# Altium integrated library Actel Axcelerator.IntLib: 120 symbols (part 28 of 31)
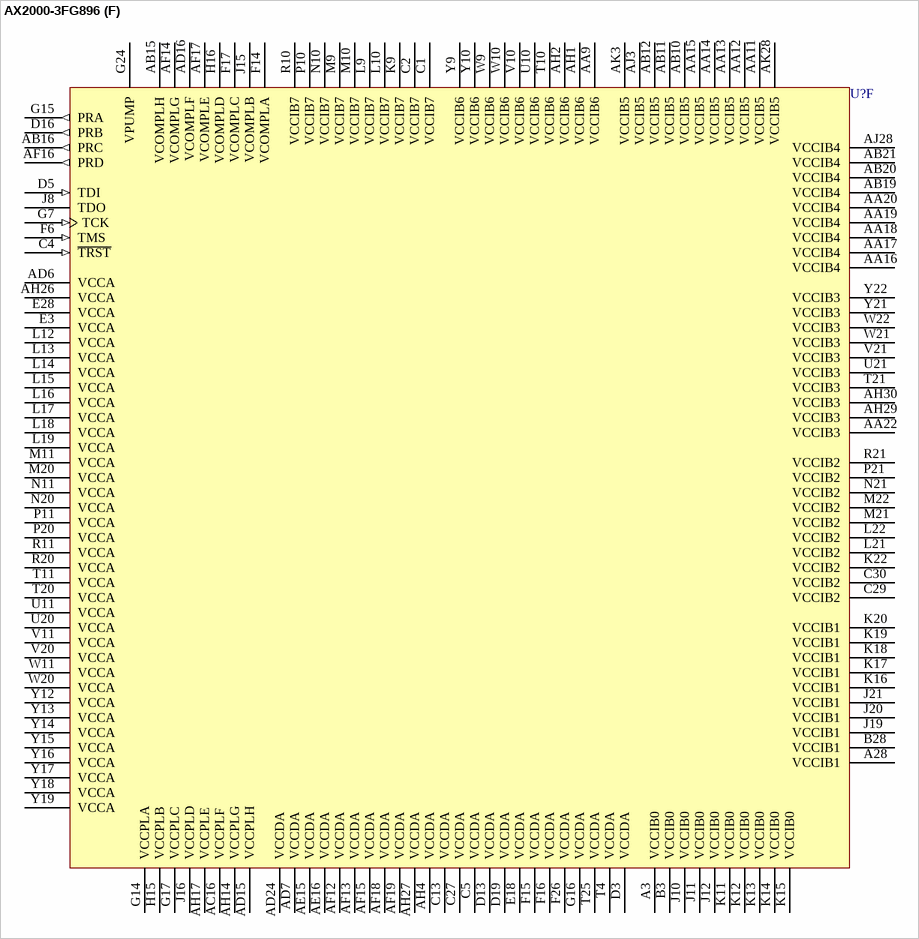
[diagram p381: symbol AX2000-3FG896]

## AX2000-3FG896
designator U?
Axcelerator AX2000 FPGA, 586 User I/Os, 896-Pin FBGA, Speed Grade 3, Commercial Grade; Published: 21-May-2003; LatestRevisionDate: 13-Apr-2006; LatestRevisionNote: IPC-7351 Footprint Added.; DatasheetVersion: Jan-2005; PackageVersion: v9.2, Apr-2006; PackageReference: FG896; Publisher: Altium Limited; PackageDescription: 896-Ball Fine Pitch Plastic Ball Grid Array (FG896); Code_JEDEC: MS-034-AAN-1; ComponentLink1Description: Manufacturer Link; ComponentLink1URL: http://www.actel.com/products/axcelerator/index.html
footprint FG896 (BGA, 896-Leads, Body 31x31mm, Pitch 1mm)
3D model AX2000-FG896 (896-Ball Fine Pitch Plastic Ball Grid Array (FG896))
part A pins: A4 IO00PB0F0 (io), A5 IO04NB0F0 (io), A6 IO10NB0F0 (io), A7 IO16NB0F1 (io), A9 IO23PB0F2 (io), A10 IO23NB0F2 (io), A11 IO30PB0F2 (io), A12 IO30NB0F2 (io), A14 IO38PB0F3 (io), A15 IO40PB0F3 (io), A16 IO45NB1F4 (io), A17 IO48NB1F4 (io), A19 IO56PB1F5 (io), A20 IO59PB1F5 (io), A21 IO62PB1F5 (io), A22 IO62NB1F5 (io), A24 IO69PB1F6 (io), A25 IO69NB1F6 (io), A26 IO78PB1F7 (io), A27 IO82PB1F7 (io), B4 IO00NB0F0 (io), B5 IO04PB0F0 (io), B6 IO10PB0F0 (io), B7 IO16PB0F1 (io), B8 IO20PB0F1 (io), B10 IO26PB0F2 (io), B11 IO26NB0F2 (io), B12 IO34PB0F3 (io), B13 IO34NB0F3 (io), B14 IO38NB0F3 (io), B15 IO40NB0F3 (io), B16 IO45PB1F4 (io), B17 IO48PB1F4 (io), B18 IO52NB1F4 (io), B19 IO56NB1F5 (io), B20 IO59NB1F5 (io), B21 IO66PB1F6 (io), B23 IO66NB1F6 (io), B24 IO76PB1F7 (io), B25 IO76NB1F7 (io), B26 IO78NB1F7 (io), B27 IO82NB1F7 (io), C6 IO08PB0F0 (io), C7 IO08NB0F0 (io), C8 IO18PB0F1 (io), C9 IO18NB0F1 (io), C11 IO28PB0F2 (io), C12 IO28NB0F2 (io), C14 IO41NB0F3/HCLKAN (io), C17 IO44NB1F4/HCLKDN (io), C18 IO53PB1F4 (io), C19 IO58PB1F5 (io), C20 IO58NB1F5 (io), C22 IO68PB1F6 (io), C23 IO73PB1F6 (io), C24 IO73NB1F6 (io), C25 IO80PB1F7 (io), C26 IO84PB1F7 (io), D6 IO02NB0F0 (io), D7 IO06NB0F0 (io), D8 IO07NB0F0 (io), D9 IO17PB0F1 (io), D10 IO17NB0F1 (io), D11 IO19NB0F1 (io), D12 IO27NB0F2 (io), D14 IO41PB0F3/HCLKAP (io), D15 IO42PB0F3/HCLKBP (io), D17 IO44PB1F4/HCLKDP (io), D18 IO53NB1F4 (io), D20 IO63PB1F5 (io), D21 IO63NB1F5 (io), D22 IO68NB1F6 (io), D23 IO74PB1F6 (io), D24 IO74NB1F6 (io), D25 IO80NB1F7 (io), D26 IO84NB1F7 (io), E6 IO02PB0F0 (io), E7 IO06PB0F0 (io), E8 IO07PB0F0 (io), E9 IO12NB0F1 (io), E10 IO13NB0F1 (io), E11 IO19PB0F1 (io), E12 IO27PB0F2 (io), E13 IO37PB0F3 (io), E14 IO37NB0F3 (io), E15 IO42NB0F3/HCLKBN (io), E16 IO43PB1F4/HCLKCP (io), E17 IO43NB1F4/HCLKCN (io), E19 IO57PB1F5 (io), E20 IO57NB1F5 (io), E21 IO71PB1F6 (io), E22 IO70PB1F6 (io), E23 IO79PB1F7 (io), E24 IO83PB1F7 (io), E25 IO85PB1F7 (io), F7 IO01PB0F0 (io), F8 IO01NB0F0 (io), F9 IO12PB0F1 (io), F10 IO13PB0F1 (io), F11 IO15NB0F1 (io), F12 IO25NB0F2 (io), F13 IO31NB0F2 (io), F18 IO51NB1F4 (io), F19 IO61PB1F5 (io), F20 IO61NB1F5 (io), F21 IO71NB1F6 (io), F22 IO70NB1F6 (io), F23 IO79NB1F7 (io), F24 IO83NB1F7 (io), F25 IO85NB1F7 (io), G8 IO05PB0F0 (io), G9 IO09NB0F0 (io), G10 IO11PB0F0 (io), G11 IO15PB0F1 (io), G12 IO25PB0F2 (io), G13 IO31PB0F2 (io), G18 IO51PB1F4 (io), G19 IO55PB1F5 (io), G20 IO65NB1F6 (io), G21 IO67PB1F6 (io), G22 IO81PB1F7 (io), G23 IO81NB1F7 (io), H8 IO05NB0F0 (io), H9 IO09PB0F0 (io), H10 IO11NB0F0 (io), H11 IO21PB0F1 (io), H12 IO21NB0F1 (io), H13 IO33NB0F2 (io), H14 IO39NB0F3 (io), H17 IO47NB1F4 (io), H18 IO49NB1F4 (io), H19 IO55NB1F5 (io), H20 IO65PB1F6 (io), H21 IO67NB1F6 (io), H22 IO75PB1F6 (io), H23 IO75NB1F6 (io), J13 IO33PB0F2 (io), J14 IO39PB0F3 (io), J17 IO47PB1F4 (io), J18 IO49PB1F4 (io)
part B pins: AA23 IO170PB3F15 (io), AA24 IO157NB3F14 (io), AA25 IO159PB3F14 (io), AA26 IO152NB3F14 (io), AA27 IO155PB3F14 (io), AA29 IO150NB3F14 (io), AA30 IO154PB3F14 (io), AB23 IO170NB3F15 (io), AB24 IO165PB3F15 (io), AB25 IO159NB3F14 (io), AB26 IO163PB3F15 (io), AB27 IO155NB3F14 (io), AB28 IO156PB3F14 (io), AB30 IO154NB3F14 (io), AC24 IO165NB3F15 (io), AC25 IO168PB3F15 (io), AC26 IO163NB3F15 (io), AC27 IO162PB3F15 (io), AC28 IO156NB3F14 (io), AC29 IO151NB3F14 (io), AD25 IO168NB3F15 (io), AD26 IO167PB3F15 (io), AD27 IO162NB3F15 (io), AD28 IO164PB3F15 (io), AD29 IO161PB3F15 (io), AD30 IO160PB3F14 (io), AE26 IO167NB3F15 (io), AE27 IO169PB3F15 (io), AE28 IO164NB3F15 (io), AE29 IO161NB3F15 (io), AE30 IO160NB3F14 (io), AF27 IO169NB3F15 (io), AF28 IO166PB3F15 (io), AF29 IO158NB3F14 (io), AF30 IO158PB3F14 (io), AG28 IO166NB3F15 (io), D29 IO89PB2F8 (io), D30 IO102PB2F9 (io), E27 IO90PB2F8 (io), E29 IO89NB2F8 (io), E30 IO102NB2F9 (io), F27 IO90NB2F8 (io), F28 IO92PB2F8 (io), F29 IO104NB2F9 (io), F30 IO96PB2F9 (io), G25 IO86PB2F8 (io), G26 IO86NB2F8 (io), G27 IO94PB2F8 (io), G28 IO92NB2F8 (io), G29 IO95PB2F8 (io), G30 IO96NB2F9 (io), H24 IO88PB2F8 (io), H25 IO91PB2F8 (io), H26 IO91NB2F8 (io), H27 IO94NB2F8 (io), H28 IO98PB2F9 (io), H29 IO95NB2F8 (io), J23 IO87PB2F8 (io), J24 IO88NB2F8 (io), J25 IO93PB2F8 (io), J26 IO93NB2F8 (io), J27 IO100PB2F9 (io), J28 IO98NB2F9 (io), J30 IO101PB2F9 (io), K23 IO87NB2F8 (io), K24 IO97PB2F9 (io), K25 IO97NB2F9 (io), K26 IO103PB2F9 (io), K27 IO100NB2F9 (io), K29 IO106PB2F9 (io), K30 IO106NB2F9 (io), L23 IO99NB2F9 (io), L24 IO99PB2F9 (io), L25 IO105PB2F9 (io), L26 IO103NB2F9 (io), L27 IO109PB2F10 (io), L28 IO110PB2F10 (io), L29 IO112PB2F10 (io), L30 IO114PB2F10 (io), M23 IO107NB2F10 (io), M24 IO107PB2F10 (io), M25 IO105NB2F9 (io), M26 IO113PB2F10 (io), M27 IO109NB2F10 (io), M28 IO110NB2F10 (io), M29 IO112NB2F10 (io), M30 IO114NB2F10 (io), N22 IO111NB2F10 (io), N23 IO111PB2F10 (io), N24 IO117PB2F10 (io), N25 IO117NB2F10 (io), N26 IO113NB2F10 (io), N27 IO115PB2F10 (io), N28 IO115NB2F10 (io), N29 IO118NB2F11 (io), P22 IO119NB2F11 (io), P23 IO119PB2F11 (io), P24 IO121PB2F11 (io), P25 IO121NB2F11 (io), P26 IO123PB2F11 (io), P27 IO122PB2F11 (io), P28 IO122NB2F11 (io), P29 IO124NB2F11 (io), P30 IO124PB2F11 (io), R22 IO125NB2F11 (io), R23 IO125PB2F11 (io), R24 IO127NB2F11 (io), R25 IO127PB2F11 (io), R26 IO123NB2F11 (io), R27 IO129PB3F12 (io), R29 IO128NB2F11 (io), R30 IO128PB2F11 (io), T22 IO131NB3F12 (io), T23 IO131PB3F12 (io), T24 IO133PB3F12 (io), T26 IO132PB3F12 (io), T27 IO129NB3F12 (io), T29 IO130NB3F12 (io), T30 IO130PB3F12 (io), U22 IO135PB3F12 (io), U23 IO135NB3F12 (io), U24 IO133NB3F12 (io), U25 IO139PB3F13 (io), U26 IO132NB3F12 (io), U27 IO138PB3F12 (io), U28 IO137PB3F12 (io), U29 IO136NB3F12 (io), U30 IO136PB3F12 (io), V22 IO141PB3F13 (io), V23 IO141NB3F13 (io), V24 IO145PB3F13 (io), V25 IO139NB3F13 (io), V26 IO143PB3F13 (io), V27 IO138NB3F12 (io), V28 IO137NB3F12 (io), V29 IO142PB3F13 (io), W23 IO153PB3F14 (io), W24 IO145NB3F13 (io), W25 IO149PB3F13 (io), W26 IO143NB3F13 (io), W27 IO146NB3F13 (io), W28 IO146PB3F13 (io), W29 IO142NB3F13 (io), W30 IO148PB3F13 (io), Y23 IO153NB3F14 (io), Y24 IO157PB3F14 (io), Y25 IO149NB3F13 (io), Y26 IO152PB3F14 (io), Y27 IO147PB3F13 (io), Y28 IO147NB3F13 (io), Y29 IO150PB3F14 (io), Y30 IO148NB3F13 (io)
part C pins: AB13 IO222NB5F20 (io), AB14 IO216NB5F20 (io), AB17 IO210PB4F19 (io), AB18 IO202PB4F18 (io), AC8 IO250NB5F23 (io), AC9 IO250PB5F23 (io), AC10 IO240NB5F22 (io), AC11 IO234NB5F21 (io), AC12 IO230NB5F21 (io), AC13 IO226NB5F21 (io), AC14 IO222PB5F20 (io), AC15 IO216PB5F20 (io), AC17 IO210NB4F19 (io), AC18 IO202NB4F18 (io), AC19 IO198NB4F18 (io), AC20 IO198PB4F18 (io), AC21 IO188PB4F17 (io), AC22 IO182PB4F17 (io), AC23 IO178PB4F16 (io), AD8 IO246NB5F23 (io), AD9 IO246PB5F23 (io), AD10 IO240PB5F22 (io), AD11 IO234PB5F21 (io), AD12 IO230PB5F21 (io), AD13 IO226PB5F21 (io), AD14 IO218PB5F20 (io), AD17 IO208PB4F19 (io), AD18 IO206PB4F19 (io), AD19 IO196NB4F18 (io), AD20 IO196PB4F18 (io), AD21 IO188NB4F17 (io), AD22 IO182NB4F17 (io), AD23 IO178NB4F16 (io), AE7 IO254NB5F23 (io), AE8 IO254PB5F23 (io), AE9 IO242NB5F22 (io), AE10 IO242PB5F22 (io), AE11 IO232NB5F21 (io), AE12 IO227NB5F21 (io), AE13 IO227PB5F21 (io), AE14 IO218NB5F20 (io), AE17 IO208NB4F19 (io), AE18 IO206NB4F19 (io), AE19 IO192NB4F17 (io), AE20 IO192PB4F17 (io), AE21 IO184NB4F17 (io), AE22 IO184PB4F17 (io), AE23 IO176NB4F16 (io), AE24 IO176PB4F16 (io), AF6 IO252NB5F23 (io), AF7 IO252PB5F23 (io), AF8 IO245NB5F23 (io), AF9 IO238NB5F22 (io), AF10 IO238PB5F22 (io), AF11 IO232PB5F21 (io), AF20 IO190NB4F17 (io), AF21 IO190PB4F17 (io), AF22 IO183NB4F17 (io), AF23 IO183PB4F17 (io), AF24 IO172NB4F16 (io), AF25 IO172PB4F16 (io), AG1 IO253PB5F23 (io), AG2 IO253NB5F23 (io), AG5 IO255NB5F23 (io), AG6 IO251PB5F23 (io), AG7 IO247NB5F23 (io), AG8 IO245PB5F23 (io), AG9 IO237NB5F22 (io), AG10 IO237PB5F22 (io), AG11 IO228NB5F21 (io), AG12 IO228PB5F21 (io), AG13 IO215NB5F20/CLKHN (io), AG14 IO214NB5F20/CLKGN (io), AG15 IO214PB5F20/CLKGP (io), AG16 IO213NB4F19/CLKFN (io), AG17 IO213PB4F19/CLKFP (io), AG18 IO212NB4F19/CLKEN (io), AG19 IO199NB4F18 (io), AG20 IO199PB4F18 (io), AG21 IO191NB4F17 (io), AG22 IO191PB4F17 (io), AG23 IO180NB4F16 (io), AG24 IO180PB4F16 (io), AG25 IO173NB4F16 (io), AG26 IO173PB4F16 (io), AG29 IO171NB4F16 (io), AG30 IO171PB4F16 (io), AH5 IO255PB5F23 (io), AH6 IO251NB5F23 (io), AH7 IO247PB5F23 (io), AH8 IO239NB5F22 (io), AH9 IO239PB5F22 (io), AH11 IO225NB5F21 (io), AH12 IO225PB5F21 (io), AH13 IO215PB5F20/CLKHP (io), AH18 IO212PB4F19/CLKEP (io), AH19 IO200NB4F18 (io), AH20 IO200PB4F18 (io), AH22 IO187NB4F17 (io), AH23 IO187PB4F17 (io), AH24 IO177NB4F16 (io), AH25 IO177PB4F16 (io), AJ4 IO256NB5F23 (io), AJ5 IO249NB5F23 (io), AJ6 IO249PB5F23 (io), AJ7 IO243NB5F22 (io), AJ8 IO243PB5F22 (io), AJ10 IO233NB5F21 (io), AJ11 IO233PB5F21 (io), AJ12 IO223NB5F21 (io), AJ13 IO223PB5F21 (io), AJ14 IO219PB5F20 (io), AJ15 IO217PB5F20 (io), AJ16 IO211NB4F19 (io), AJ17 IO207NB4F19 (io), AJ18 IO207PB4F19 (io), AJ19 IO201PB4F18 (io), AJ20 IO197NB4F18 (io), AJ21 IO195PB4F18 (io), AJ23 IO185NB4F17 (io), AJ24 IO185PB4F17 (io), AJ25 IO174NB4F16 (io), AJ26 IO174PB4F16 (io), AJ27 IO179PB4F16 (io), AK4 IO256PB5F23 (io), AK5 IO248NB5F23 (io), AK6 IO244NB5F22 (io), AK7 IO244PB5F22 (io), AK9 IO236NB5F22 (io), AK10 IO236PB5F22 (io), AK11 IO229NB5F21 (io), AK12 IO229PB5F21 (io), AK14 IO219NB5F20 (io), AK15 IO217NB5F20 (io), AK16 IO211PB4F19 (io), AK17 IO209NB4F19 (io), AK19 IO201NB4F18 (io), AK20 IO197PB4F18 (io), AK21 IO195NB4F18 (io), AK22 IO189PB4F17 (io), AK24 IO181NB4F17 (io), AK25 IO181PB4F17 (io), AK26 IO175NB4F16 (io), AK27 IO175PB4F16 (io)
part D pins: AA1 IO277PB6F25 (io), AA2 IO277NB6F25 (io), AA4 IO271NB6F25 (io), AA5 IO275PB6F25 (io), AA6 IO272PB6F25 (io), AA7 IO270PB6F25 (io), AA8 IO266NB6F24 (io), AB1 IO273NB6F25 (io), AB3 IO268NB6F25 (io), AB4 IO271PB6F25 (io), AB5 IO267NB6F25 (io), AB6 IO264NB6F24 (io), AB7 IO258NB6F24 (io), AB8 IO266PB6F24 (io), AC2 IO269NB6F25 (io), AC3 IO268PB6F25 (io), AC4 IO262NB6F24 (io), AC5 IO267PB6F25 (io), AC6 IO264PB6F24 (io), AC7 IO258PB6F24 (io), AD1 IO265NB6F24 (io), AD2 IO269PB6F25 (io), AD3 IO263NB6F24 (io), AD4 IO262PB6F24 (io), AD5 IO259NB6F24 (io), AE1 IO265PB6F24 (io), AE2 IO273PB6F25 (io), AE3 IO263PB6F24 (io), AE4 IO257NB6F24 (io), AE5 IO259PB6F24 (io), AF1 IO260NB6F24 (io), AF2 IO260PB6F24 (io), AF3 IO261NB6F24 (io), AF4 IO257PB6F24 (io), AG3 IO261PB6F24 (io), D1 IO333NB7F31 (io), D2 IO333PB7F31 (io), E1 IO337PB7F31 (io), E2 IO337NB7F31 (io), F1 IO335PB7F31 (io), F2 IO335NB7F31 (io), F3 IO339PB7F31 (io), F4 IO339NB7F31 (io), F5 IO340NB7F31 (io), G1 IO326NB7F30 (io), G2 IO329NB7F30 (io), G3 IO330NB7F30 (io), G4 IO334NB7F31 (io), G5 IO340PB7F31 (io), G6 IO341NB7F31 (io), H2 IO329PB7F30 (io), H3 IO330PB7F30 (io), H4 IO334PB7F31 (io), H5 IO336NB7F31 (io), H6 IO341PB7F31 (io), H7 IO338NB7F31 (io), J1 IO323NB7F30 (io), J3 IO327PB7F30 (io), J4 IO327NB7F30 (io), J5 IO336PB7F31 (io), J6 IO332NB7F31 (io), J7 IO338PB7F31 (io), K1 IO323PB7F30 (io), K2 IO326PB7F30 (io), K4 IO321NB7F30 (io), K5 IO324NB7F30 (io), K6 IO332PB7F31 (io), K7 IO331PB7F30 (io), K8 IO331NB7F30 (io), L1 IO311NB7F29 (io), L2 IO315NB7F29 (io), L3 IO317NB7F29 (io), L4 IO321PB7F30 (io), L5 IO324PB7F30 (io), L6 IO320NB7F29 (io), L7 IO328PB7F30 (io), L8 IO328NB7F30 (io), M1 IO311PB7F29 (io), M2 IO315PB7F29 (io), M3 IO317PB7F29 (io), M4 IO313NB7F29 (io), M5 IO312NB7F29 (io), M6 IO320PB7F29 (io), M7 IO322PB7F30 (io), M8 IO322NB7F30 (io), N2 IO306NB7F28 (io), N3 IO307NB7F28 (io), N4 IO313PB7F29 (io), N5 IO312PB7F29 (io), N6 IO316PB7F29 (io), N7 IO316NB7F29 (io), N8 IO318NB7F29 (io), N9 IO318PB7F29 (io), P1 IO303NB7F28 (io), P2 IO306PB7F28 (io), P3 IO307PB7F28 (io), P4 IO309NB7F28 (io), P5 IO309PB7F28 (io), P6 IO310PB7F29 (io), P7 IO310NB7F29 (io), P8 IO308PB7F28 (io), P9 IO308NB7F28 (io), R1 IO303PB7F28 (io), R2 IO299NB6F27 (io), R4 IO302NB7F28 (io), R5 IO302PB7F28 (io), R6 IO304PB7F28 (io), R7 IO304NB7F28 (io), R8 IO300NB7F28 (io), R9 IO300PB7F28 (io), T1 IO296NB6F27 (io), T2 IO299PB6F27 (io), T5 IO292NB6F27 (io), T6 IO298PB6F27 (io), T7 IO298NB6F27 (io), T8 IO294NB6F27 (io), T9 IO294PB6F27 (io), U1 IO296PB6F27 (io), U2 IO293NB6F27 (io), U3 IO291NB6F27 (io), U4 IO290NB6F27 (io), U5 IO292PB6F27 (io), U6 IO288PB6F26 (io), U7 IO288NB6F26 (io), U8 IO286NB6F26 (io), U9 IO286PB6F26 (io), V2 IO293PB6F27 (io), V3 IO291PB6F27 (io), V4 IO290PB6F27 (io), V5 IO282NB6F26 (io), V6 IO284PB6F26 (io), V7 IO284NB6F26 (io), V8 IO280NB6F26 (io), V9 IO280PB6F26 (io), W1 IO287NB6F26 (io), W2 IO287PB6F26 (io), W3 IO285NB6F26 (io), W4 IO285PB6F26 (io), W5 IO282PB6F26 (io), W6 IO278NB6F26 (io), W7 IO278PB6F26 (io), W8 IO274NB6F25 (io), Y1 IO281NB6F26 (io), Y2 IO281PB6F26 (io), Y3 IO279NB6F26 (io), Y4 IO279PB6F26 (io), Y5 IO275NB6F25 (io), Y6 IO272NB6F25 (io), Y7 IO270NB6F25 (io), Y8 IO274PB6F25 (io)
part E pins: A2 GND (power), A8 GND (power), A13 GND (power), A18 GND (power), A23 GND (power), A29 GND (power), AA3 GND (power), AA10 GND (power), AA21 GND (power), AA28 GND (power), AB2 GND (power), AB9 GND (power), AB22 GND (power), AB29 GND (power), AC1 GND (power), AC30 GND (power), AE6 GND (power), AE25 GND (power), AF5 GND (power), AF26 GND (power), AG4 GND (power), AG27 GND (power), AH3 GND (power), AH10 GND (power), AH15 GND (power), AH16 GND (power), AH21 GND (power), AH28 GND (power), AJ1 GND (power), AJ2 GND (power), AJ9 GND (power), AJ22 GND (power), AJ29 GND (power), AJ30 GND (power), AK2 GND (power), AK8 GND (power), AK13 GND (power), AK18 GND (power), AK23 GND (power), AK29 GND (power), B1 GND (power), B2 GND (power), B9 GND (power), B22 GND (power), B29 GND (power), B30 GND (power), C3 GND (power), C10 GND (power), C15 GND (power), C16 GND (power), C21 GND (power), C28 GND (power), D4 GND (power), D27 GND (power), D28 GND (power), E4 GND/LP (power), E5 GND (power), E26 GND (power), H1 GND (power), H30 GND (power), J2 GND (power), J9 GND (power), J22 GND (power), J29 GND (power), K3 GND (power), K10 GND (power), K21 GND (power), K28 GND (power), L11 GND (power), L20 GND (power), M12 GND (power), M13 GND (power), M14 GND (power), M15 GND (power), M16 GND (power), M17 GND (power), M18 GND (power), M19 GND (power), N1 GND (power), N12 GND (power), N13 GND (power), N14 GND (power), N15 GND (power), N16 GND (power), N17 GND (power), N18 GND (power), N19 GND (power), N30 GND (power), P12 GND (power), P13 GND (power), P14 GND (power), P15 GND (power), P16 GND (power), P17 GND (power), P18 GND (power), P19 GND (power), R3 GND (power), R12 GND (power), R13 GND (power), R14 GND (power), R15 GND (power), R16 GND (power), R17 GND (power), R18 GND (power), R19 GND (power), R28 GND (power), T3 GND (power), T12 GND (power), T13 GND (power), T14 GND (power), T15 GND (power), T16 GND (power), T17 GND (power), T18 GND (power), T19 GND (power), T28 GND (power), U12 GND (power), U13 GND (power), U14 GND (power), U15 GND (power), U16 GND (power), U17 GND (power), U18 GND (power), U19 GND (power), V1 GND (power), V12 GND (power), V13 GND (power), V14 GND (power), V15 GND (power), V16 GND (power), V17 GND (power), V18 GND (power), V19 GND (power), V30 GND (power), W12 GND (power), W13 GND (power), W14 GND (power), W15 GND (power), W16 GND (power), W17 GND (power), W18 GND (power), W19 GND (power), Y11 GND (power), Y20 GND (power)
part F pins: A3 VCCIB0 (power), A28 VCCIB1 (power), AA9 VCCIB6 (power), AA11 VCCIB5 (power), AA12 VCCIB5 (power), AA13 VCCIB5 (power), AA14 VCCIB5 (power), AA15 VCCIB5 (power), AA16 VCCIB4 (power), AA17 VCCIB4 (power), AA18 VCCIB4 (power), AA19 VCCIB4 (power), AA20 VCCIB4 (power), AA22 VCCIB3 (power), AB10 VCCIB5 (power), AB11 VCCIB5 (power), AB12 VCCIB5 (power), AB15 VCOMPLH (power), AB16 PRC (out), AB19 VCCIB4 (power), AB20 VCCIB4 (power), AB21 VCCIB4 (power), AC16 VCCPLF (power), AD6 VCCA (power), AD7 VCCDA (power), AD15 VCCPLH (power), AD16 VCOMPLF (power), AD24 VCCDA (power), AE15 VCCDA (power), AE16 VCCDA (power), AF12 VCCDA (power), AF13 VCCDA (power), AF14 VCOMPLG (power), AF15 VCCDA (power), AF16 PRD (out), AF17 VCOMPLE (power), AF18 VCCDA (power), AF19 VCCDA (power), AH1 VCCIB6 (power), AH2 VCCIB6 (power), AH4 VCCDA (power), AH14 VCCPLG (power), AH17 VCCPLE (power), AH26 VCCA (power), AH27 VCCDA (power), AH29 VCCIB3 (power), AH30 VCCIB3 (power), AJ3 VCCIB5 (power), AJ28 VCCIB4 (power), AK3 VCCIB5 (power), AK28 VCCIB5 (power), B3 VCCIB0 (power), B28 VCCIB1 (power), C1 VCCIB7 (power), C2 VCCIB7 (power), C4 ~{TRST} (in), C5 VCCDA (power), C13 VCCDA (power), C27 VCCDA (power), C29 VCCIB2 (power), C30 VCCIB2 (power), D3 VCCDA (power), D5 TDI (in), D13 VCCDA (power), D16 PRB (out), D19 VCCDA (power), E3 VCCA (power), E18 VCCDA (power), E28 VCCA (power), F6 TMS (in), F14 VCOMPLA (power), F15 VCCDA (power), F16 VCCDA (power), F17 VCOMPLC (power), F26 VCCDA (power), G7 TCK (in), G14 VCCPLA (power), G15 PRA (out), G16 VCCDA (power), G17 VCCPLC (power), G24 VPUMP (power), H15 VCCPLB (power), H16 VCOMPLD (power), J8 TDO (hiz), J10 VCCIB0 (power), J11 VCCIB0 (power), J12 VCCIB0 (power), J15 VCOMPLB (power), J16 VCCPLD (power), J19 VCCIB1 (power), J20 VCCIB1 (power), J21 VCCIB1 (power), K9 VCCIB7 (power), K11 VCCIB0 (power), K12 VCCIB0 (power), K13 VCCIB0 (power), K14 VCCIB0 (power), K15 VCCIB0 (power), K16 VCCIB1 (power), K17 VCCIB1 (power), K18 VCCIB1 (power), K19 VCCIB1 (power), K20 VCCIB1 (power), K22 VCCIB2 (power), L9 VCCIB7 (power), L10 VCCIB7 (power), L12 VCCA (power), L13 VCCA (power), L14 VCCA (power), L15 VCCA (power), L16 VCCA (power), L17 VCCA (power), L18 VCCA (power), L19 VCCA (power), L21 VCCIB2 (power), L22 VCCIB2 (power), M9 VCCIB7 (power), M10 VCCIB7 (power), M11 VCCA (power), M20 VCCA (power), M21 VCCIB2 (power), M22 VCCIB2 (power), N10 VCCIB7 (power), N11 VCCA (power), N20 VCCA (power), N21 VCCIB2 (power), P10 VCCIB7 (power), P11 VCCA (power), P20 VCCA (power), P21 VCCIB2 (power), R10 VCCIB7 (power), R11 VCCA (power), R20 VCCA (power), R21 VCCIB2 (power), T4 VCCDA (power), T10 VCCIB6 (power), T11 VCCA (power), T20 VCCA (power), T21 VCCIB3 (power), T25 VCCDA (power), U10 VCCIB6 (power), U11 VCCA (power), U20 VCCA (power), U21 VCCIB3 (power), V10 VCCIB6 (power), V11 VCCA (power), V20 VCCA (power), V21 VCCIB3 (power), W9 VCCIB6 (power), W10 VCCIB6 (power), W11 VCCA (power), W20 VCCA (power), W21 VCCIB3 (power), W22 VCCIB3 (power), Y9 VCCIB6 (power), Y10 VCCIB6 (power), Y12 VCCA (power), Y13 VCCA (power), Y14 VCCA (power), Y15 VCCA (power), Y16 VCCA (power), Y17 VCCA (power), Y18 VCCA (power), Y19 VCCA (power), Y21 VCCIB3 (power), Y22 VCCIB3 (power)
part A text: Bank 1; Bank 0
part B text: Bank 3; Bank 2
part C text: Bank 5; Bank 4
part D text: Bank 7; Bank 6

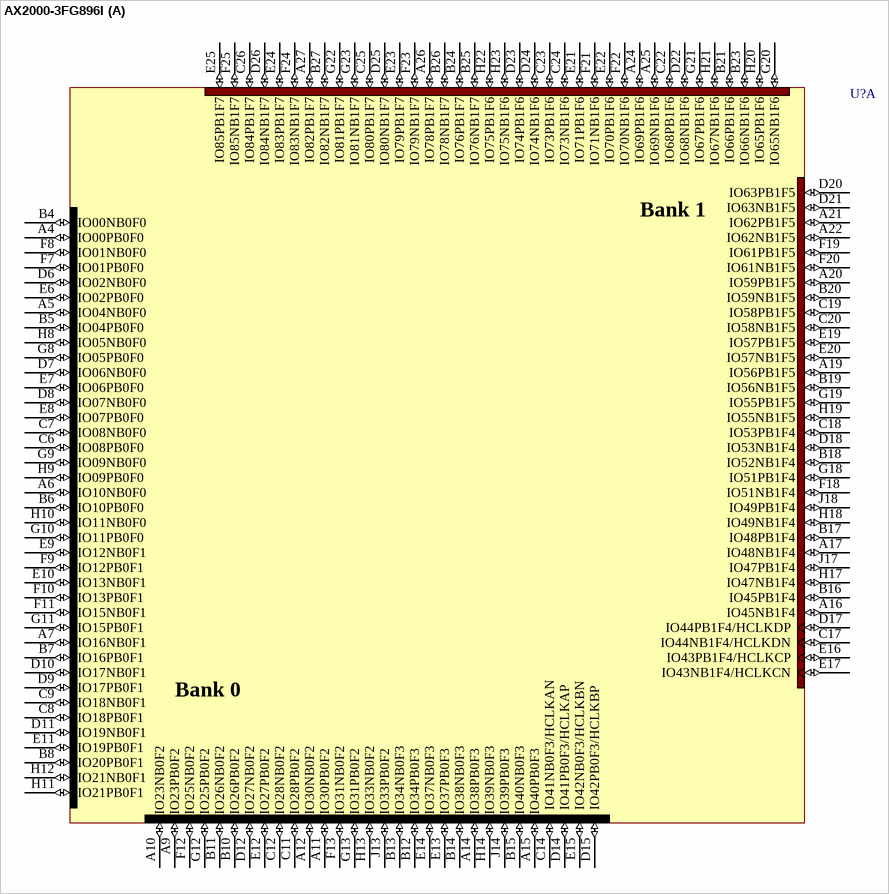
[diagram p315: symbol AX2000-3FG896I]

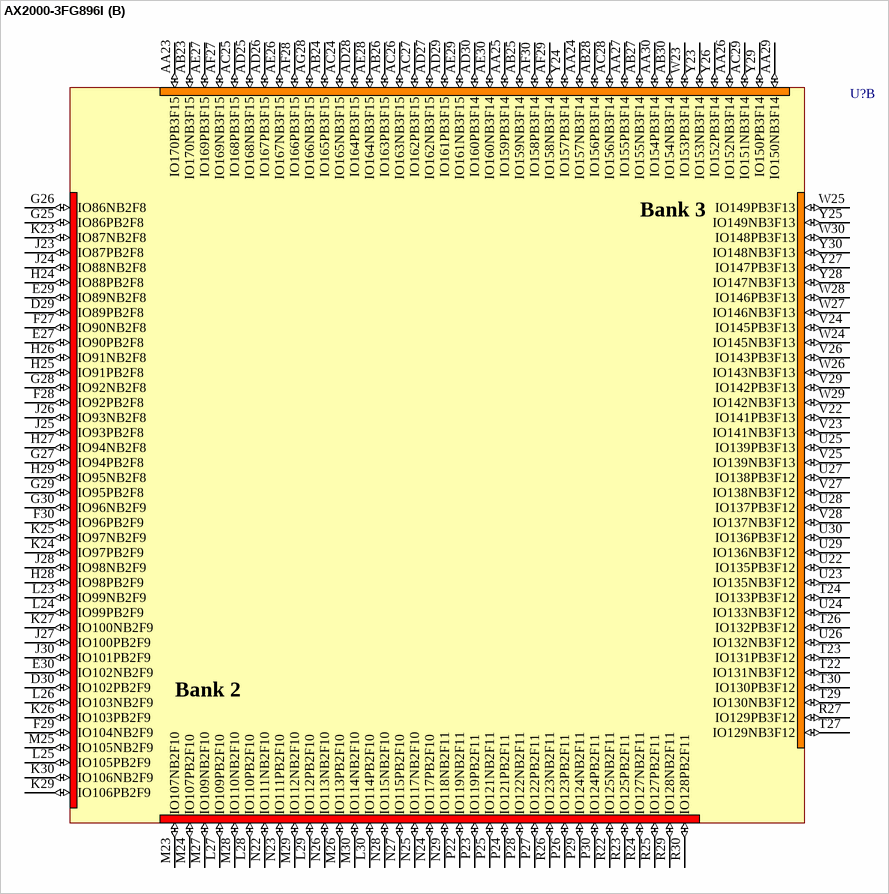
[diagram p316: symbol AX2000-3FG896I]

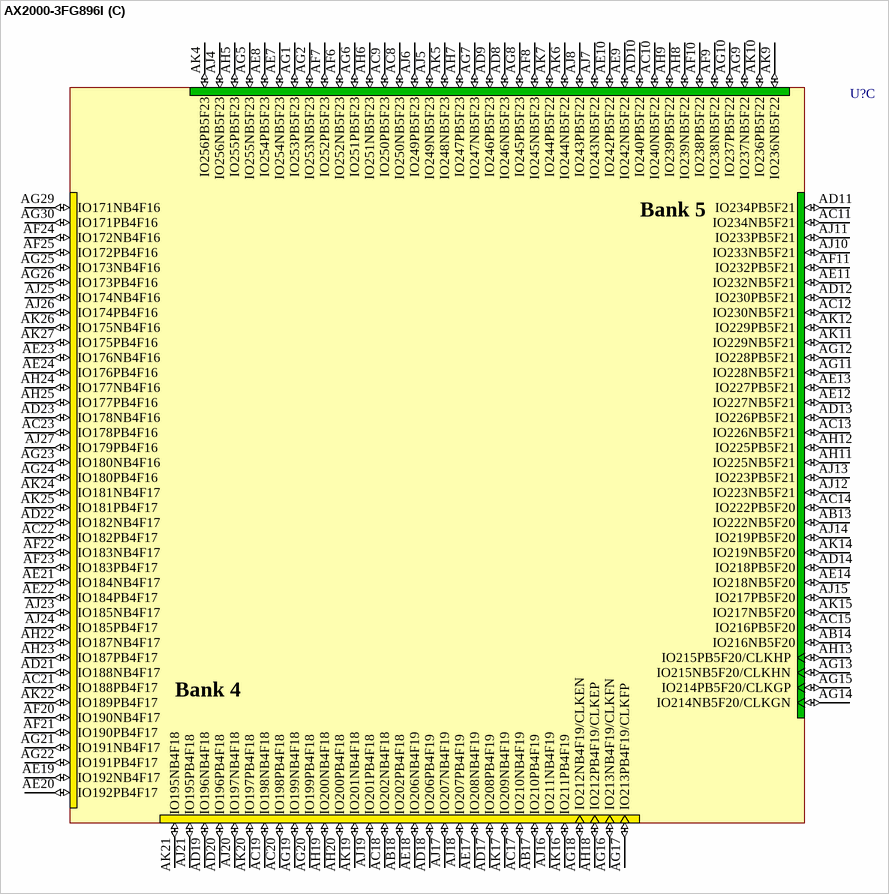
[diagram p317: symbol AX2000-3FG896I]

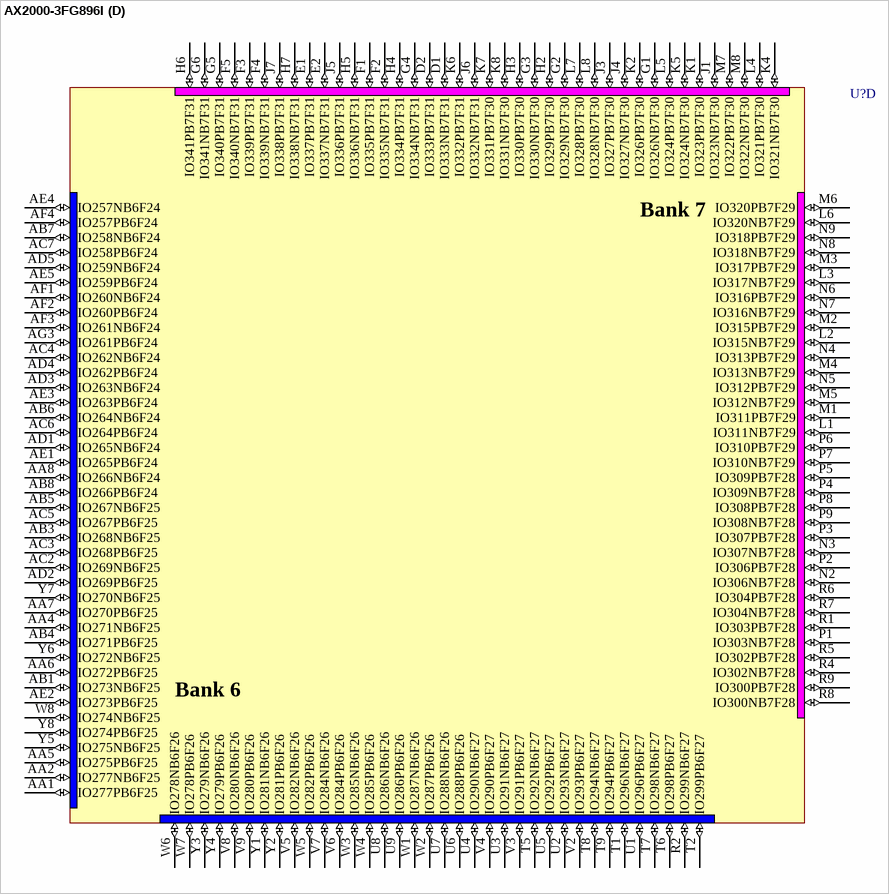
[diagram p318: symbol AX2000-3FG896I]

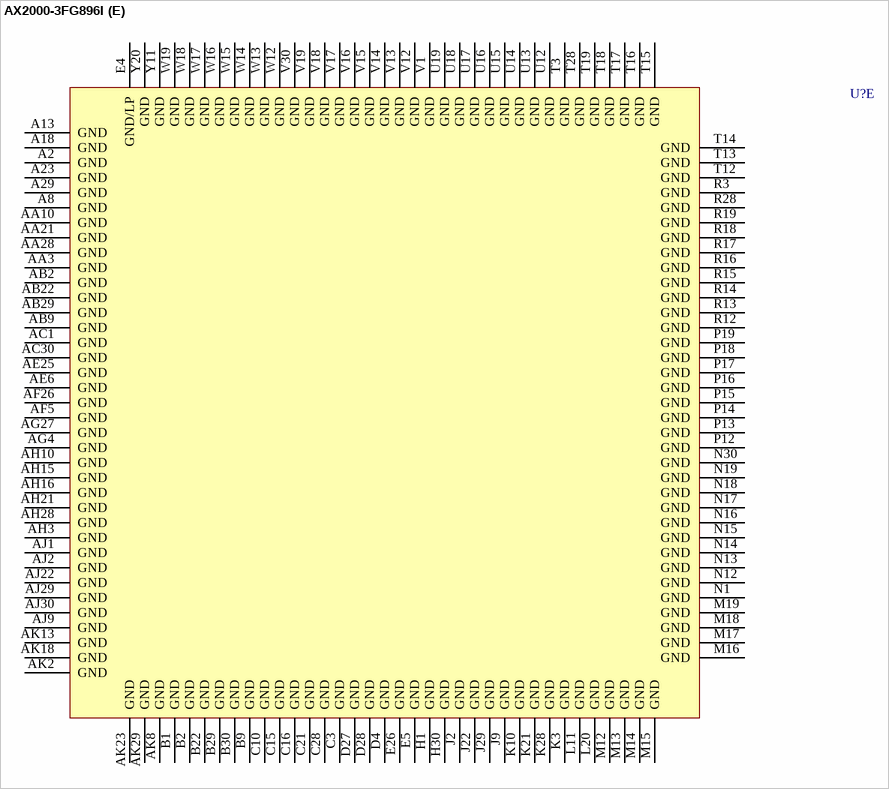
[diagram p319: symbol AX2000-3FG896I]

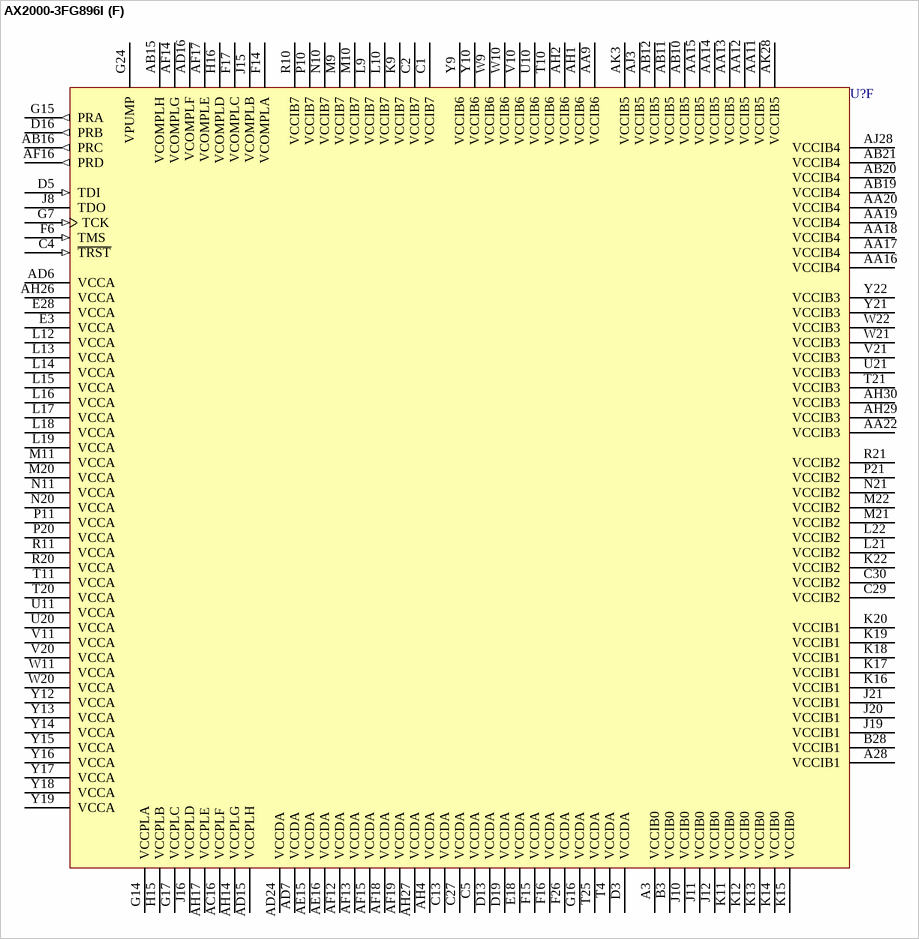
[diagram p320: symbol AX2000-3FG896I]

## AX2000-3FG896I
designator U?
Axcelerator AX2000 FPGA, 586 User I/Os, 896-Pin FBGA, Speed Grade 3, Industrial Grade; Published: 21-May-2003; LatestRevisionDate: 13-Apr-2006; LatestRevisionNote: IPC-7351 Footprint Added.; DatasheetVersion: Jan-2005; PackageVersion: v9.2, Apr-2006; PackageReference: FG896; Publisher: Altium Limited; PackageDescription: 896-Ball Fine Pitch Plastic Ball Grid Array (FG896); Code_JEDEC: MS-034-AAN-1; ComponentLink1Description: Manufacturer Link; ComponentLink1URL: http://www.actel.com/products/axcelerator/index.html
footprint FG896 (BGA, 896-Leads, Body 31x31mm, Pitch 1mm)
3D model AX2000-FG896 (896-Ball Fine Pitch Plastic Ball Grid Array (FG896))
part A pins: A4 IO00PB0F0 (io), A5 IO04NB0F0 (io), A6 IO10NB0F0 (io), A7 IO16NB0F1 (io), A9 IO23PB0F2 (io), A10 IO23NB0F2 (io), A11 IO30PB0F2 (io), A12 IO30NB0F2 (io), A14 IO38PB0F3 (io), A15 IO40PB0F3 (io), A16 IO45NB1F4 (io), A17 IO48NB1F4 (io), A19 IO56PB1F5 (io), A20 IO59PB1F5 (io), A21 IO62PB1F5 (io), A22 IO62NB1F5 (io), A24 IO69PB1F6 (io), A25 IO69NB1F6 (io), A26 IO78PB1F7 (io), A27 IO82PB1F7 (io), B4 IO00NB0F0 (io), B5 IO04PB0F0 (io), B6 IO10PB0F0 (io), B7 IO16PB0F1 (io), B8 IO20PB0F1 (io), B10 IO26PB0F2 (io), B11 IO26NB0F2 (io), B12 IO34PB0F3 (io), B13 IO34NB0F3 (io), B14 IO38NB0F3 (io), B15 IO40NB0F3 (io), B16 IO45PB1F4 (io), B17 IO48PB1F4 (io), B18 IO52NB1F4 (io), B19 IO56NB1F5 (io), B20 IO59NB1F5 (io), B21 IO66PB1F6 (io), B23 IO66NB1F6 (io), B24 IO76PB1F7 (io), B25 IO76NB1F7 (io), B26 IO78NB1F7 (io), B27 IO82NB1F7 (io), C6 IO08PB0F0 (io), C7 IO08NB0F0 (io), C8 IO18PB0F1 (io), C9 IO18NB0F1 (io), C11 IO28PB0F2 (io), C12 IO28NB0F2 (io), C14 IO41NB0F3/HCLKAN (io), C17 IO44NB1F4/HCLKDN (io), C18 IO53PB1F4 (io), C19 IO58PB1F5 (io), C20 IO58NB1F5 (io), C22 IO68PB1F6 (io), C23 IO73PB1F6 (io), C24 IO73NB1F6 (io), C25 IO80PB1F7 (io), C26 IO84PB1F7 (io), D6 IO02NB0F0 (io), D7 IO06NB0F0 (io), D8 IO07NB0F0 (io), D9 IO17PB0F1 (io), D10 IO17NB0F1 (io), D11 IO19NB0F1 (io), D12 IO27NB0F2 (io), D14 IO41PB0F3/HCLKAP (io), D15 IO42PB0F3/HCLKBP (io), D17 IO44PB1F4/HCLKDP (io), D18 IO53NB1F4 (io), D20 IO63PB1F5 (io), D21 IO63NB1F5 (io), D22 IO68NB1F6 (io), D23 IO74PB1F6 (io), D24 IO74NB1F6 (io), D25 IO80NB1F7 (io), D26 IO84NB1F7 (io), E6 IO02PB0F0 (io), E7 IO06PB0F0 (io), E8 IO07PB0F0 (io), E9 IO12NB0F1 (io), E10 IO13NB0F1 (io), E11 IO19PB0F1 (io), E12 IO27PB0F2 (io), E13 IO37PB0F3 (io), E14 IO37NB0F3 (io), E15 IO42NB0F3/HCLKBN (io), E16 IO43PB1F4/HCLKCP (io), E17 IO43NB1F4/HCLKCN (io), E19 IO57PB1F5 (io), E20 IO57NB1F5 (io), E21 IO71PB1F6 (io), E22 IO70PB1F6 (io), E23 IO79PB1F7 (io), E24 IO83PB1F7 (io), E25 IO85PB1F7 (io), F7 IO01PB0F0 (io), F8 IO01NB0F0 (io), F9 IO12PB0F1 (io), F10 IO13PB0F1 (io), F11 IO15NB0F1 (io), F12 IO25NB0F2 (io), F13 IO31NB0F2 (io), F18 IO51NB1F4 (io), F19 IO61PB1F5 (io), F20 IO61NB1F5 (io), F21 IO71NB1F6 (io), F22 IO70NB1F6 (io), F23 IO79NB1F7 (io), F24 IO83NB1F7 (io), F25 IO85NB1F7 (io), G8 IO05PB0F0 (io), G9 IO09NB0F0 (io), G10 IO11PB0F0 (io), G11 IO15PB0F1 (io), G12 IO25PB0F2 (io), G13 IO31PB0F2 (io), G18 IO51PB1F4 (io), G19 IO55PB1F5 (io), G20 IO65NB1F6 (io), G21 IO67PB1F6 (io), G22 IO81PB1F7 (io), G23 IO81NB1F7 (io), H8 IO05NB0F0 (io), H9 IO09PB0F0 (io), H10 IO11NB0F0 (io), H11 IO21PB0F1 (io), H12 IO21NB0F1 (io), H13 IO33NB0F2 (io), H14 IO39NB0F3 (io), H17 IO47NB1F4 (io), H18 IO49NB1F4 (io), H19 IO55NB1F5 (io), H20 IO65PB1F6 (io), H21 IO67NB1F6 (io), H22 IO75PB1F6 (io), H23 IO75NB1F6 (io), J13 IO33PB0F2 (io), J14 IO39PB0F3 (io), J17 IO47PB1F4 (io), J18 IO49PB1F4 (io)
part B pins: AA23 IO170PB3F15 (io), AA24 IO157NB3F14 (io), AA25 IO159PB3F14 (io), AA26 IO152NB3F14 (io), AA27 IO155PB3F14 (io), AA29 IO150NB3F14 (io), AA30 IO154PB3F14 (io), AB23 IO170NB3F15 (io), AB24 IO165PB3F15 (io), AB25 IO159NB3F14 (io), AB26 IO163PB3F15 (io), AB27 IO155NB3F14 (io), AB28 IO156PB3F14 (io), AB30 IO154NB3F14 (io), AC24 IO165NB3F15 (io), AC25 IO168PB3F15 (io), AC26 IO163NB3F15 (io), AC27 IO162PB3F15 (io), AC28 IO156NB3F14 (io), AC29 IO151NB3F14 (io), AD25 IO168NB3F15 (io), AD26 IO167PB3F15 (io), AD27 IO162NB3F15 (io), AD28 IO164PB3F15 (io), AD29 IO161PB3F15 (io), AD30 IO160PB3F14 (io), AE26 IO167NB3F15 (io), AE27 IO169PB3F15 (io), AE28 IO164NB3F15 (io), AE29 IO161NB3F15 (io), AE30 IO160NB3F14 (io), AF27 IO169NB3F15 (io), AF28 IO166PB3F15 (io), AF29 IO158NB3F14 (io), AF30 IO158PB3F14 (io), AG28 IO166NB3F15 (io), D29 IO89PB2F8 (io), D30 IO102PB2F9 (io), E27 IO90PB2F8 (io), E29 IO89NB2F8 (io), E30 IO102NB2F9 (io), F27 IO90NB2F8 (io), F28 IO92PB2F8 (io), F29 IO104NB2F9 (io), F30 IO96PB2F9 (io), G25 IO86PB2F8 (io), G26 IO86NB2F8 (io), G27 IO94PB2F8 (io), G28 IO92NB2F8 (io), G29 IO95PB2F8 (io), G30 IO96NB2F9 (io), H24 IO88PB2F8 (io), H25 IO91PB2F8 (io), H26 IO91NB2F8 (io), H27 IO94NB2F8 (io), H28 IO98PB2F9 (io), H29 IO95NB2F8 (io), J23 IO87PB2F8 (io), J24 IO88NB2F8 (io), J25 IO93PB2F8 (io), J26 IO93NB2F8 (io), J27 IO100PB2F9 (io), J28 IO98NB2F9 (io), J30 IO101PB2F9 (io), K23 IO87NB2F8 (io), K24 IO97PB2F9 (io), K25 IO97NB2F9 (io), K26 IO103PB2F9 (io), K27 IO100NB2F9 (io), K29 IO106PB2F9 (io), K30 IO106NB2F9 (io), L23 IO99NB2F9 (io), L24 IO99PB2F9 (io), L25 IO105PB2F9 (io), L26 IO103NB2F9 (io), L27 IO109PB2F10 (io), L28 IO110PB2F10 (io), L29 IO112PB2F10 (io), L30 IO114PB2F10 (io), M23 IO107NB2F10 (io), M24 IO107PB2F10 (io), M25 IO105NB2F9 (io), M26 IO113PB2F10 (io), M27 IO109NB2F10 (io), M28 IO110NB2F10 (io), M29 IO112NB2F10 (io), M30 IO114NB2F10 (io), N22 IO111NB2F10 (io), N23 IO111PB2F10 (io), N24 IO117PB2F10 (io), N25 IO117NB2F10 (io), N26 IO113NB2F10 (io), N27 IO115PB2F10 (io), N28 IO115NB2F10 (io), N29 IO118NB2F11 (io), P22 IO119NB2F11 (io), P23 IO119PB2F11 (io), P24 IO121PB2F11 (io), P25 IO121NB2F11 (io), P26 IO123PB2F11 (io), P27 IO122PB2F11 (io), P28 IO122NB2F11 (io), P29 IO124NB2F11 (io), P30 IO124PB2F11 (io), R22 IO125NB2F11 (io), R23 IO125PB2F11 (io), R24 IO127NB2F11 (io), R25 IO127PB2F11 (io), R26 IO123NB2F11 (io), R27 IO129PB3F12 (io), R29 IO128NB2F11 (io), R30 IO128PB2F11 (io), T22 IO131NB3F12 (io), T23 IO131PB3F12 (io), T24 IO133PB3F12 (io), T26 IO132PB3F12 (io), T27 IO129NB3F12 (io), T29 IO130NB3F12 (io), T30 IO130PB3F12 (io), U22 IO135PB3F12 (io), U23 IO135NB3F12 (io), U24 IO133NB3F12 (io), U25 IO139PB3F13 (io), U26 IO132NB3F12 (io), U27 IO138PB3F12 (io), U28 IO137PB3F12 (io), U29 IO136NB3F12 (io), U30 IO136PB3F12 (io), V22 IO141PB3F13 (io), V23 IO141NB3F13 (io), V24 IO145PB3F13 (io), V25 IO139NB3F13 (io), V26 IO143PB3F13 (io), V27 IO138NB3F12 (io), V28 IO137NB3F12 (io), V29 IO142PB3F13 (io), W23 IO153PB3F14 (io), W24 IO145NB3F13 (io), W25 IO149PB3F13 (io), W26 IO143NB3F13 (io), W27 IO146NB3F13 (io), W28 IO146PB3F13 (io), W29 IO142NB3F13 (io), W30 IO148PB3F13 (io), Y23 IO153NB3F14 (io), Y24 IO157PB3F14 (io), Y25 IO149NB3F13 (io), Y26 IO152PB3F14 (io), Y27 IO147PB3F13 (io), Y28 IO147NB3F13 (io), Y29 IO150PB3F14 (io), Y30 IO148NB3F13 (io)
part C pins: AB13 IO222NB5F20 (io), AB14 IO216NB5F20 (io), AB17 IO210PB4F19 (io), AB18 IO202PB4F18 (io), AC8 IO250NB5F23 (io), AC9 IO250PB5F23 (io), AC10 IO240NB5F22 (io), AC11 IO234NB5F21 (io), AC12 IO230NB5F21 (io), AC13 IO226NB5F21 (io), AC14 IO222PB5F20 (io), AC15 IO216PB5F20 (io), AC17 IO210NB4F19 (io), AC18 IO202NB4F18 (io), AC19 IO198NB4F18 (io), AC20 IO198PB4F18 (io), AC21 IO188PB4F17 (io), AC22 IO182PB4F17 (io), AC23 IO178PB4F16 (io), AD8 IO246NB5F23 (io), AD9 IO246PB5F23 (io), AD10 IO240PB5F22 (io), AD11 IO234PB5F21 (io), AD12 IO230PB5F21 (io), AD13 IO226PB5F21 (io), AD14 IO218PB5F20 (io), AD17 IO208PB4F19 (io), AD18 IO206PB4F19 (io), AD19 IO196NB4F18 (io), AD20 IO196PB4F18 (io), AD21 IO188NB4F17 (io), AD22 IO182NB4F17 (io), AD23 IO178NB4F16 (io), AE7 IO254NB5F23 (io), AE8 IO254PB5F23 (io), AE9 IO242NB5F22 (io), AE10 IO242PB5F22 (io), AE11 IO232NB5F21 (io), AE12 IO227NB5F21 (io), AE13 IO227PB5F21 (io), AE14 IO218NB5F20 (io), AE17 IO208NB4F19 (io), AE18 IO206NB4F19 (io), AE19 IO192NB4F17 (io), AE20 IO192PB4F17 (io), AE21 IO184NB4F17 (io), AE22 IO184PB4F17 (io), AE23 IO176NB4F16 (io), AE24 IO176PB4F16 (io), AF6 IO252NB5F23 (io), AF7 IO252PB5F23 (io), AF8 IO245NB5F23 (io), AF9 IO238NB5F22 (io), AF10 IO238PB5F22 (io), AF11 IO232PB5F21 (io), AF20 IO190NB4F17 (io), AF21 IO190PB4F17 (io), AF22 IO183NB4F17 (io), AF23 IO183PB4F17 (io), AF24 IO172NB4F16 (io), AF25 IO172PB4F16 (io), AG1 IO253PB5F23 (io), AG2 IO253NB5F23 (io), AG5 IO255NB5F23 (io), AG6 IO251PB5F23 (io), AG7 IO247NB5F23 (io), AG8 IO245PB5F23 (io), AG9 IO237NB5F22 (io), AG10 IO237PB5F22 (io), AG11 IO228NB5F21 (io), AG12 IO228PB5F21 (io), AG13 IO215NB5F20/CLKHN (io), AG14 IO214NB5F20/CLKGN (io), AG15 IO214PB5F20/CLKGP (io), AG16 IO213NB4F19/CLKFN (io), AG17 IO213PB4F19/CLKFP (io), AG18 IO212NB4F19/CLKEN (io), AG19 IO199NB4F18 (io), AG20 IO199PB4F18 (io), AG21 IO191NB4F17 (io), AG22 IO191PB4F17 (io), AG23 IO180NB4F16 (io), AG24 IO180PB4F16 (io), AG25 IO173NB4F16 (io), AG26 IO173PB4F16 (io), AG29 IO171NB4F16 (io), AG30 IO171PB4F16 (io), AH5 IO255PB5F23 (io), AH6 IO251NB5F23 (io), AH7 IO247PB5F23 (io), AH8 IO239NB5F22 (io), AH9 IO239PB5F22 (io), AH11 IO225NB5F21 (io), AH12 IO225PB5F21 (io), AH13 IO215PB5F20/CLKHP (io), AH18 IO212PB4F19/CLKEP (io), AH19 IO200NB4F18 (io), AH20 IO200PB4F18 (io), AH22 IO187NB4F17 (io), AH23 IO187PB4F17 (io), AH24 IO177NB4F16 (io), AH25 IO177PB4F16 (io), AJ4 IO256NB5F23 (io), AJ5 IO249NB5F23 (io), AJ6 IO249PB5F23 (io), AJ7 IO243NB5F22 (io), AJ8 IO243PB5F22 (io), AJ10 IO233NB5F21 (io), AJ11 IO233PB5F21 (io), AJ12 IO223NB5F21 (io), AJ13 IO223PB5F21 (io), AJ14 IO219PB5F20 (io), AJ15 IO217PB5F20 (io), AJ16 IO211NB4F19 (io), AJ17 IO207NB4F19 (io), AJ18 IO207PB4F19 (io), AJ19 IO201PB4F18 (io), AJ20 IO197NB4F18 (io), AJ21 IO195PB4F18 (io), AJ23 IO185NB4F17 (io), AJ24 IO185PB4F17 (io), AJ25 IO174NB4F16 (io), AJ26 IO174PB4F16 (io), AJ27 IO179PB4F16 (io), AK4 IO256PB5F23 (io), AK5 IO248NB5F23 (io), AK6 IO244NB5F22 (io), AK7 IO244PB5F22 (io), AK9 IO236NB5F22 (io), AK10 IO236PB5F22 (io), AK11 IO229NB5F21 (io), AK12 IO229PB5F21 (io), AK14 IO219NB5F20 (io), AK15 IO217NB5F20 (io), AK16 IO211PB4F19 (io), AK17 IO209NB4F19 (io), AK19 IO201NB4F18 (io), AK20 IO197PB4F18 (io), AK21 IO195NB4F18 (io), AK22 IO189PB4F17 (io), AK24 IO181NB4F17 (io), AK25 IO181PB4F17 (io), AK26 IO175NB4F16 (io), AK27 IO175PB4F16 (io)
part D pins: AA1 IO277PB6F25 (io), AA2 IO277NB6F25 (io), AA4 IO271NB6F25 (io), AA5 IO275PB6F25 (io), AA6 IO272PB6F25 (io), AA7 IO270PB6F25 (io), AA8 IO266NB6F24 (io), AB1 IO273NB6F25 (io), AB3 IO268NB6F25 (io), AB4 IO271PB6F25 (io), AB5 IO267NB6F25 (io), AB6 IO264NB6F24 (io), AB7 IO258NB6F24 (io), AB8 IO266PB6F24 (io), AC2 IO269NB6F25 (io), AC3 IO268PB6F25 (io), AC4 IO262NB6F24 (io), AC5 IO267PB6F25 (io), AC6 IO264PB6F24 (io), AC7 IO258PB6F24 (io), AD1 IO265NB6F24 (io), AD2 IO269PB6F25 (io), AD3 IO263NB6F24 (io), AD4 IO262PB6F24 (io), AD5 IO259NB6F24 (io), AE1 IO265PB6F24 (io), AE2 IO273PB6F25 (io), AE3 IO263PB6F24 (io), AE4 IO257NB6F24 (io), AE5 IO259PB6F24 (io), AF1 IO260NB6F24 (io), AF2 IO260PB6F24 (io), AF3 IO261NB6F24 (io), AF4 IO257PB6F24 (io), AG3 IO261PB6F24 (io), D1 IO333NB7F31 (io), D2 IO333PB7F31 (io), E1 IO337PB7F31 (io), E2 IO337NB7F31 (io), F1 IO335PB7F31 (io), F2 IO335NB7F31 (io), F3 IO339PB7F31 (io), F4 IO339NB7F31 (io), F5 IO340NB7F31 (io), G1 IO326NB7F30 (io), G2 IO329NB7F30 (io), G3 IO330NB7F30 (io), G4 IO334NB7F31 (io), G5 IO340PB7F31 (io), G6 IO341NB7F31 (io), H2 IO329PB7F30 (io), H3 IO330PB7F30 (io), H4 IO334PB7F31 (io), H5 IO336NB7F31 (io), H6 IO341PB7F31 (io), H7 IO338NB7F31 (io), J1 IO323NB7F30 (io), J3 IO327PB7F30 (io), J4 IO327NB7F30 (io), J5 IO336PB7F31 (io), J6 IO332NB7F31 (io), J7 IO338PB7F31 (io), K1 IO323PB7F30 (io), K2 IO326PB7F30 (io), K4 IO321NB7F30 (io), K5 IO324NB7F30 (io), K6 IO332PB7F31 (io), K7 IO331PB7F30 (io), K8 IO331NB7F30 (io), L1 IO311NB7F29 (io), L2 IO315NB7F29 (io), L3 IO317NB7F29 (io), L4 IO321PB7F30 (io), L5 IO324PB7F30 (io), L6 IO320NB7F29 (io), L7 IO328PB7F30 (io), L8 IO328NB7F30 (io), M1 IO311PB7F29 (io), M2 IO315PB7F29 (io), M3 IO317PB7F29 (io), M4 IO313NB7F29 (io), M5 IO312NB7F29 (io), M6 IO320PB7F29 (io), M7 IO322PB7F30 (io), M8 IO322NB7F30 (io), N2 IO306NB7F28 (io), N3 IO307NB7F28 (io), N4 IO313PB7F29 (io), N5 IO312PB7F29 (io), N6 IO316PB7F29 (io), N7 IO316NB7F29 (io), N8 IO318NB7F29 (io), N9 IO318PB7F29 (io), P1 IO303NB7F28 (io), P2 IO306PB7F28 (io), P3 IO307PB7F28 (io), P4 IO309NB7F28 (io), P5 IO309PB7F28 (io), P6 IO310PB7F29 (io), P7 IO310NB7F29 (io), P8 IO308PB7F28 (io), P9 IO308NB7F28 (io), R1 IO303PB7F28 (io), R2 IO299NB6F27 (io), R4 IO302NB7F28 (io), R5 IO302PB7F28 (io), R6 IO304PB7F28 (io), R7 IO304NB7F28 (io), R8 IO300NB7F28 (io), R9 IO300PB7F28 (io), T1 IO296NB6F27 (io), T2 IO299PB6F27 (io), T5 IO292NB6F27 (io), T6 IO298PB6F27 (io), T7 IO298NB6F27 (io), T8 IO294NB6F27 (io), T9 IO294PB6F27 (io), U1 IO296PB6F27 (io), U2 IO293NB6F27 (io), U3 IO291NB6F27 (io), U4 IO290NB6F27 (io), U5 IO292PB6F27 (io), U6 IO288PB6F26 (io), U7 IO288NB6F26 (io), U8 IO286NB6F26 (io), U9 IO286PB6F26 (io), V2 IO293PB6F27 (io), V3 IO291PB6F27 (io), V4 IO290PB6F27 (io), V5 IO282NB6F26 (io), V6 IO284PB6F26 (io), V7 IO284NB6F26 (io), V8 IO280NB6F26 (io), V9 IO280PB6F26 (io), W1 IO287NB6F26 (io), W2 IO287PB6F26 (io), W3 IO285NB6F26 (io), W4 IO285PB6F26 (io), W5 IO282PB6F26 (io), W6 IO278NB6F26 (io), W7 IO278PB6F26 (io), W8 IO274NB6F25 (io), Y1 IO281NB6F26 (io), Y2 IO281PB6F26 (io), Y3 IO279NB6F26 (io), Y4 IO279PB6F26 (io), Y5 IO275NB6F25 (io), Y6 IO272NB6F25 (io), Y7 IO270NB6F25 (io), Y8 IO274PB6F25 (io)
part E pins: A2 GND (power), A8 GND (power), A13 GND (power), A18 GND (power), A23 GND (power), A29 GND (power), AA3 GND (power), AA10 GND (power), AA21 GND (power), AA28 GND (power), AB2 GND (power), AB9 GND (power), AB22 GND (power), AB29 GND (power), AC1 GND (power), AC30 GND (power), AE6 GND (power), AE25 GND (power), AF5 GND (power), AF26 GND (power), AG4 GND (power), AG27 GND (power), AH3 GND (power), AH10 GND (power), AH15 GND (power), AH16 GND (power), AH21 GND (power), AH28 GND (power), AJ1 GND (power), AJ2 GND (power), AJ9 GND (power), AJ22 GND (power), AJ29 GND (power), AJ30 GND (power), AK2 GND (power), AK8 GND (power), AK13 GND (power), AK18 GND (power), AK23 GND (power), AK29 GND (power), B1 GND (power), B2 GND (power), B9 GND (power), B22 GND (power), B29 GND (power), B30 GND (power), C3 GND (power), C10 GND (power), C15 GND (power), C16 GND (power), C21 GND (power), C28 GND (power), D4 GND (power), D27 GND (power), D28 GND (power), E4 GND/LP (power), E5 GND (power), E26 GND (power), H1 GND (power), H30 GND (power), J2 GND (power), J9 GND (power), J22 GND (power), J29 GND (power), K3 GND (power), K10 GND (power), K21 GND (power), K28 GND (power), L11 GND (power), L20 GND (power), M12 GND (power), M13 GND (power), M14 GND (power), M15 GND (power), M16 GND (power), M17 GND (power), M18 GND (power), M19 GND (power), N1 GND (power), N12 GND (power), N13 GND (power), N14 GND (power), N15 GND (power), N16 GND (power), N17 GND (power), N18 GND (power), N19 GND (power), N30 GND (power), P12 GND (power), P13 GND (power), P14 GND (power), P15 GND (power), P16 GND (power), P17 GND (power), P18 GND (power), P19 GND (power), R3 GND (power), R12 GND (power), R13 GND (power), R14 GND (power), R15 GND (power), R16 GND (power), R17 GND (power), R18 GND (power), R19 GND (power), R28 GND (power), T3 GND (power), T12 GND (power), T13 GND (power), T14 GND (power), T15 GND (power), T16 GND (power), T17 GND (power), T18 GND (power), T19 GND (power), T28 GND (power), U12 GND (power), U13 GND (power), U14 GND (power), U15 GND (power), U16 GND (power), U17 GND (power), U18 GND (power), U19 GND (power), V1 GND (power), V12 GND (power), V13 GND (power), V14 GND (power), V15 GND (power), V16 GND (power), V17 GND (power), V18 GND (power), V19 GND (power), V30 GND (power), W12 GND (power), W13 GND (power), W14 GND (power), W15 GND (power), W16 GND (power), W17 GND (power), W18 GND (power), W19 GND (power), Y11 GND (power), Y20 GND (power)
part F pins: A3 VCCIB0 (power), A28 VCCIB1 (power), AA9 VCCIB6 (power), AA11 VCCIB5 (power), AA12 VCCIB5 (power), AA13 VCCIB5 (power), AA14 VCCIB5 (power), AA15 VCCIB5 (power), AA16 VCCIB4 (power), AA17 VCCIB4 (power), AA18 VCCIB4 (power), AA19 VCCIB4 (power), AA20 VCCIB4 (power), AA22 VCCIB3 (power), AB10 VCCIB5 (power), AB11 VCCIB5 (power), AB12 VCCIB5 (power), AB15 VCOMPLH (power), AB16 PRC (out), AB19 VCCIB4 (power), AB20 VCCIB4 (power), AB21 VCCIB4 (power), AC16 VCCPLF (power), AD6 VCCA (power), AD7 VCCDA (power), AD15 VCCPLH (power), AD16 VCOMPLF (power), AD24 VCCDA (power), AE15 VCCDA (power), AE16 VCCDA (power), AF12 VCCDA (power), AF13 VCCDA (power), AF14 VCOMPLG (power), AF15 VCCDA (power), AF16 PRD (out), AF17 VCOMPLE (power), AF18 VCCDA (power), AF19 VCCDA (power), AH1 VCCIB6 (power), AH2 VCCIB6 (power), AH4 VCCDA (power), AH14 VCCPLG (power), AH17 VCCPLE (power), AH26 VCCA (power), AH27 VCCDA (power), AH29 VCCIB3 (power), AH30 VCCIB3 (power), AJ3 VCCIB5 (power), AJ28 VCCIB4 (power), AK3 VCCIB5 (power), AK28 VCCIB5 (power), B3 VCCIB0 (power), B28 VCCIB1 (power), C1 VCCIB7 (power), C2 VCCIB7 (power), C4 ~{TRST} (in), C5 VCCDA (power), C13 VCCDA (power), C27 VCCDA (power), C29 VCCIB2 (power), C30 VCCIB2 (power), D3 VCCDA (power), D5 TDI (in), D13 VCCDA (power), D16 PRB (out), D19 VCCDA (power), E3 VCCA (power), E18 VCCDA (power), E28 VCCA (power), F6 TMS (in), F14 VCOMPLA (power), F15 VCCDA (power), F16 VCCDA (power), F17 VCOMPLC (power), F26 VCCDA (power), G7 TCK (in), G14 VCCPLA (power), G15 PRA (out), G16 VCCDA (power), G17 VCCPLC (power), G24 VPUMP (power), H15 VCCPLB (power), H16 VCOMPLD (power), J8 TDO (hiz), J10 VCCIB0 (power), J11 VCCIB0 (power), J12 VCCIB0 (power), J15 VCOMPLB (power), J16 VCCPLD (power), J19 VCCIB1 (power), J20 VCCIB1 (power), J21 VCCIB1 (power), K9 VCCIB7 (power), K11 VCCIB0 (power), K12 VCCIB0 (power), K13 VCCIB0 (power), K14 VCCIB0 (power), K15 VCCIB0 (power), K16 VCCIB1 (power), K17 VCCIB1 (power), K18 VCCIB1 (power), K19 VCCIB1 (power), K20 VCCIB1 (power), K22 VCCIB2 (power), L9 VCCIB7 (power), L10 VCCIB7 (power), L12 VCCA (power), L13 VCCA (power), L14 VCCA (power), L15 VCCA (power), L16 VCCA (power), L17 VCCA (power), L18 VCCA (power), L19 VCCA (power), L21 VCCIB2 (power), L22 VCCIB2 (power), M9 VCCIB7 (power), M10 VCCIB7 (power), M11 VCCA (power), M20 VCCA (power), M21 VCCIB2 (power), M22 VCCIB2 (power), N10 VCCIB7 (power), N11 VCCA (power), N20 VCCA (power), N21 VCCIB2 (power), P10 VCCIB7 (power), P11 VCCA (power), P20 VCCA (power), P21 VCCIB2 (power), R10 VCCIB7 (power), R11 VCCA (power), R20 VCCA (power), R21 VCCIB2 (power), T4 VCCDA (power), T10 VCCIB6 (power), T11 VCCA (power), T20 VCCA (power), T21 VCCIB3 (power), T25 VCCDA (power), U10 VCCIB6 (power), U11 VCCA (power), U20 VCCA (power), U21 VCCIB3 (power), V10 VCCIB6 (power), V11 VCCA (power), V20 VCCA (power), V21 VCCIB3 (power), W9 VCCIB6 (power), W10 VCCIB6 (power), W11 VCCA (power), W20 VCCA (power), W21 VCCIB3 (power), W22 VCCIB3 (power), Y9 VCCIB6 (power), Y10 VCCIB6 (power), Y12 VCCA (power), Y13 VCCA (power), Y14 VCCA (power), Y15 VCCA (power), Y16 VCCA (power), Y17 VCCA (power), Y18 VCCA (power), Y19 VCCA (power), Y21 VCCIB3 (power), Y22 VCCIB3 (power)
part A text: Bank 1; Bank 0
part B text: Bank 3; Bank 2
part C text: Bank 5; Bank 4
part D text: Bank 7; Bank 6

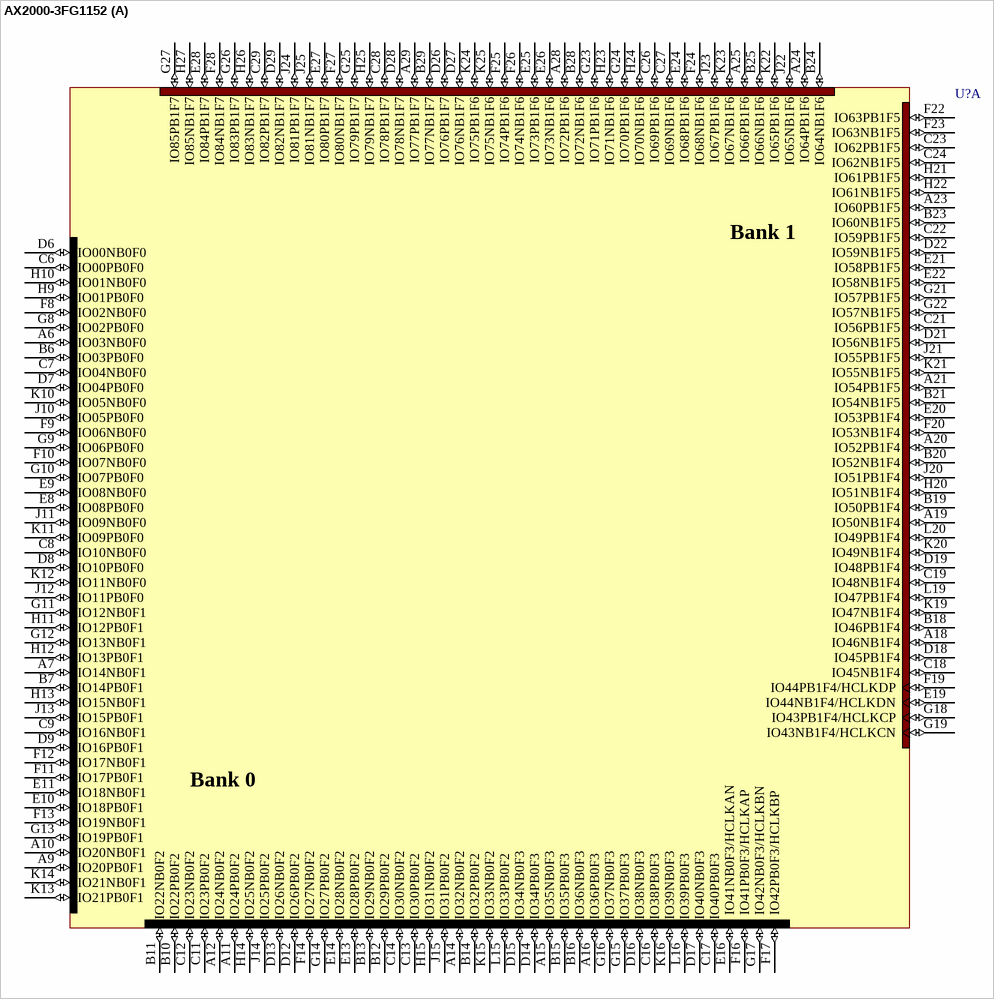
[diagram p321: symbol AX2000-3FG1152]

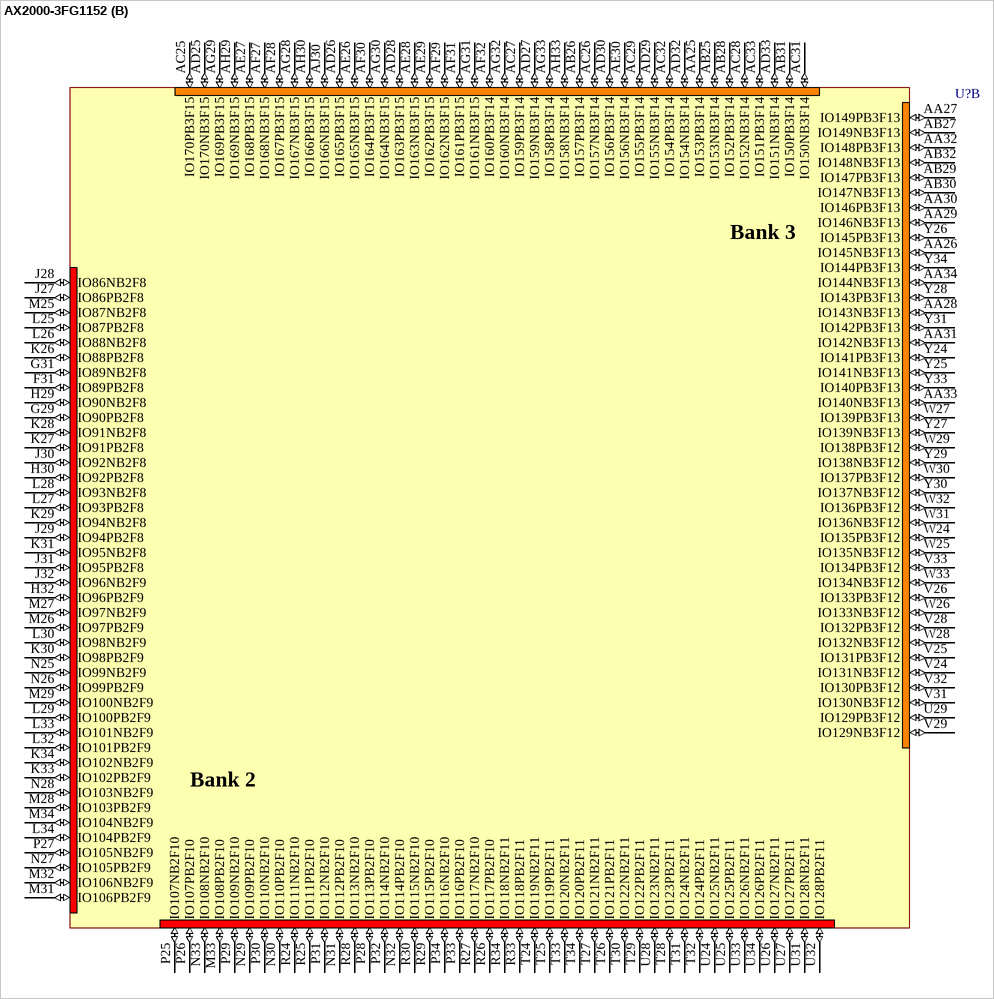
[diagram p322: symbol AX2000-3FG1152]

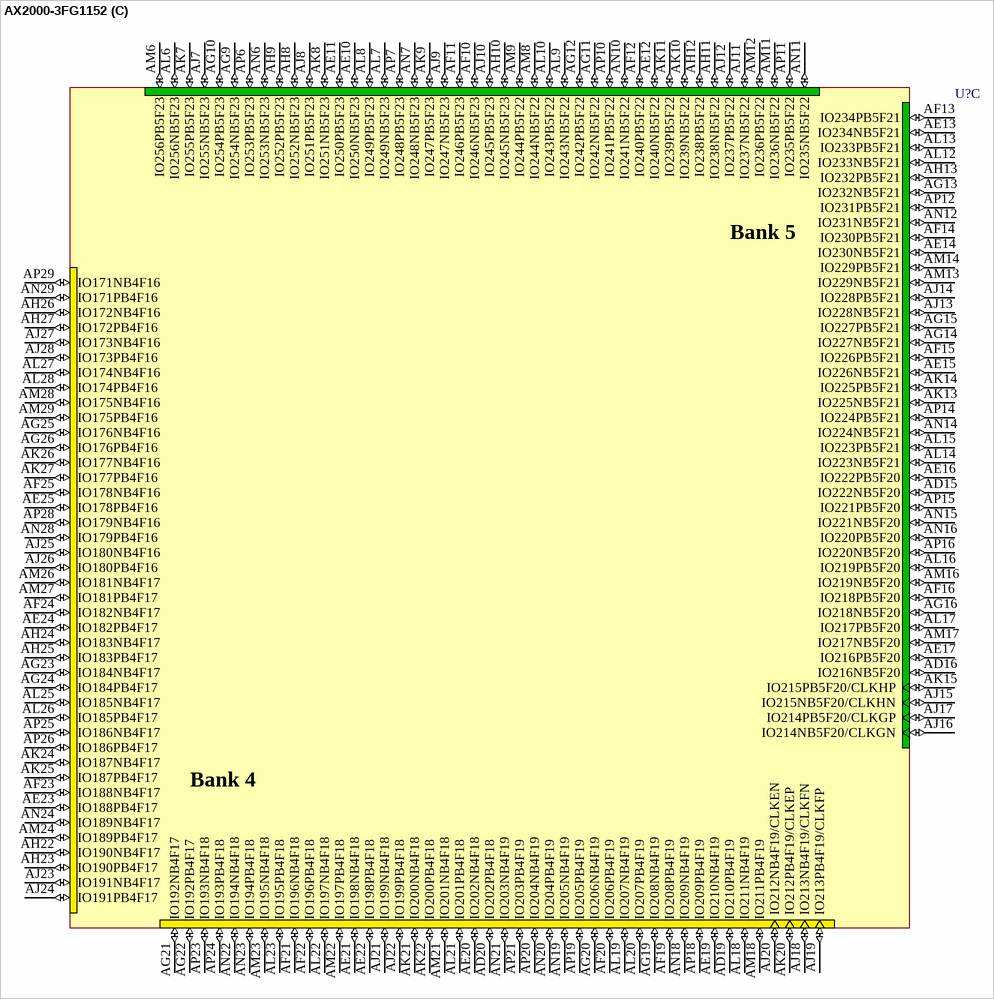
[diagram p323: symbol AX2000-3FG1152]

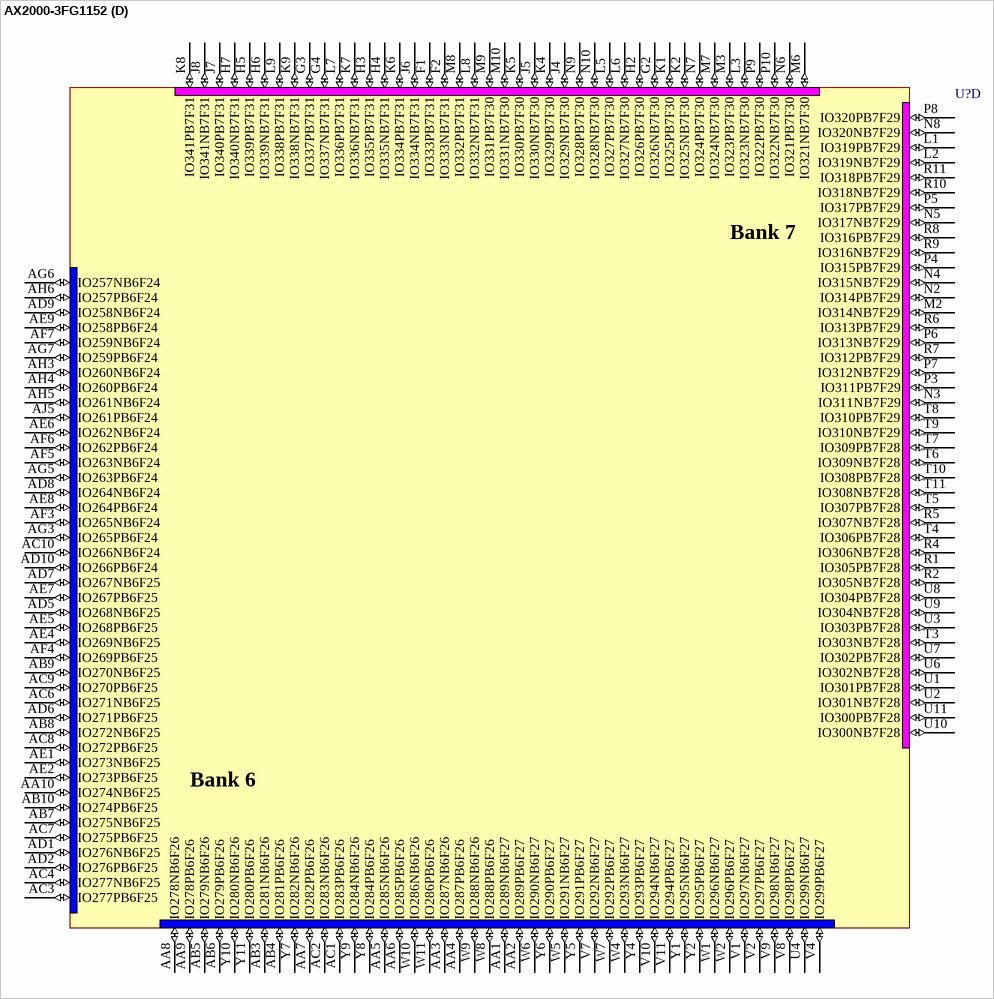
[diagram p324: symbol AX2000-3FG1152]

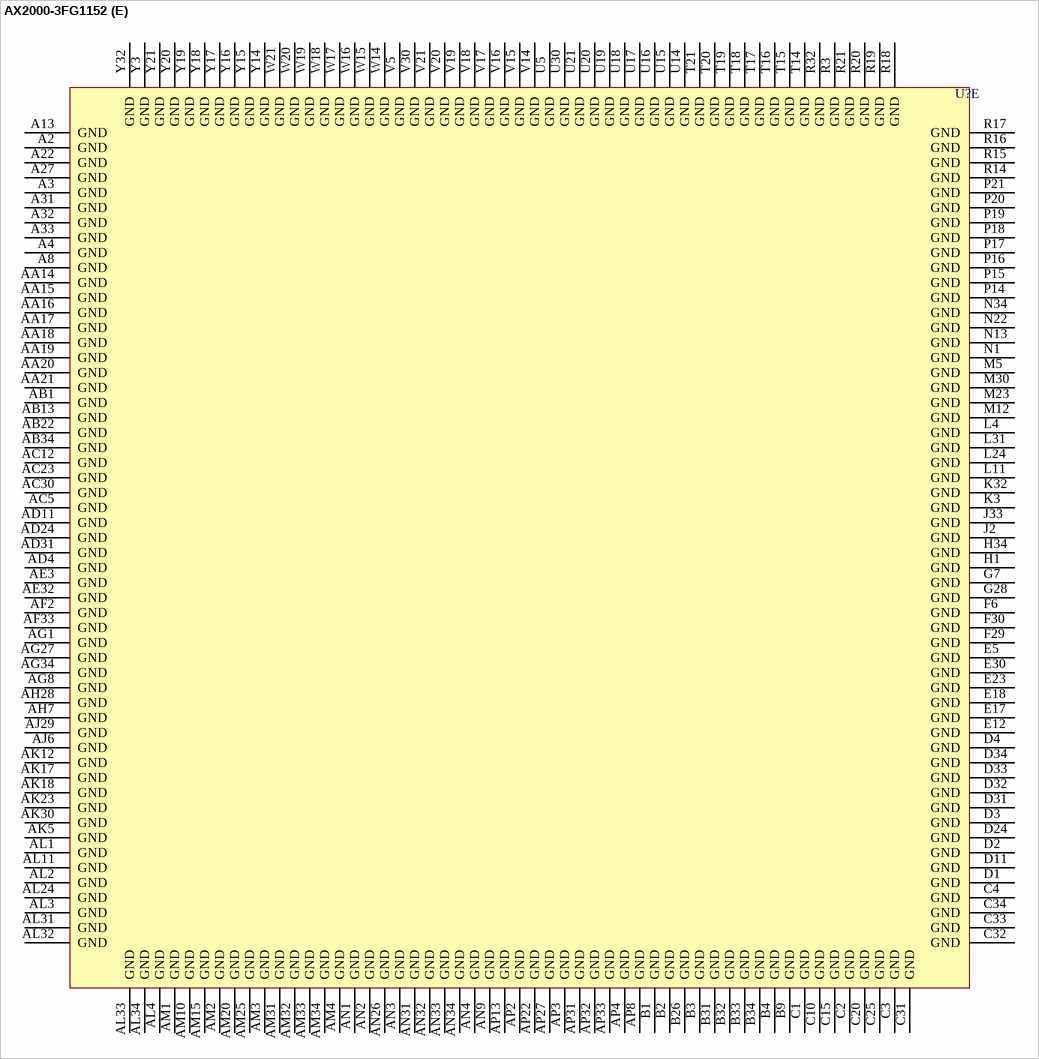
[diagram p325: symbol AX2000-3FG1152]

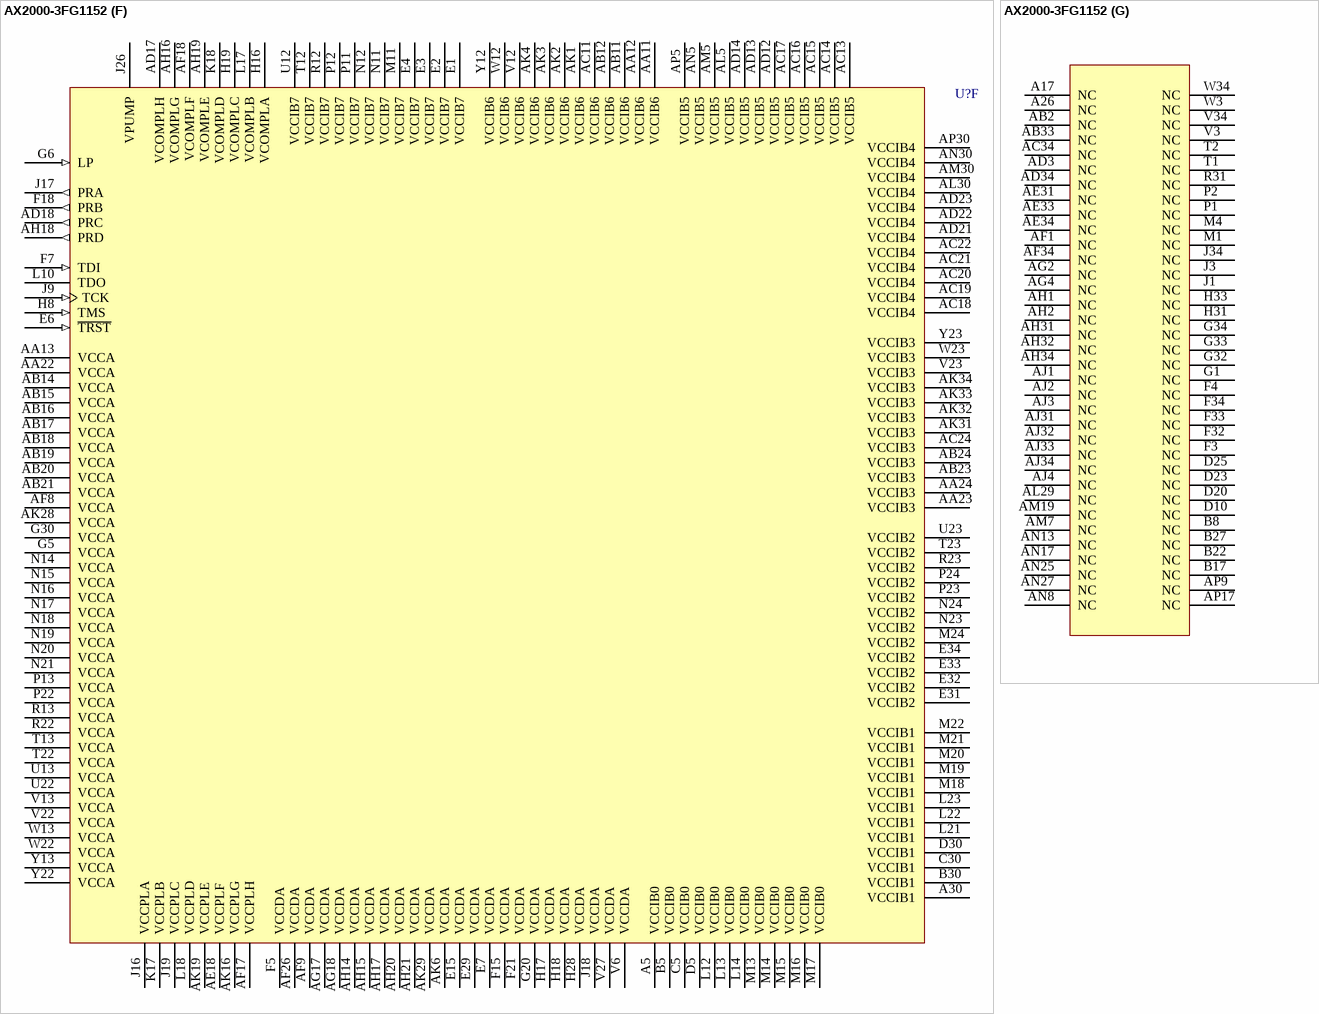
[diagram p326: symbol AX2000-3FG1152]